# Altium footprint library Placa desarrollo 16F877A.PcbLib: 16 footprints
Each footprint in its own frame and in the unit in brackets; x right, y up, seen from the top. Pads: shape width x height; smd on the part's side, far side on the other; paste and mask are expansions set on the pad; w line width, h text height; cw(c..) or ccw(c..) is an arc to the next point about the centre after c.
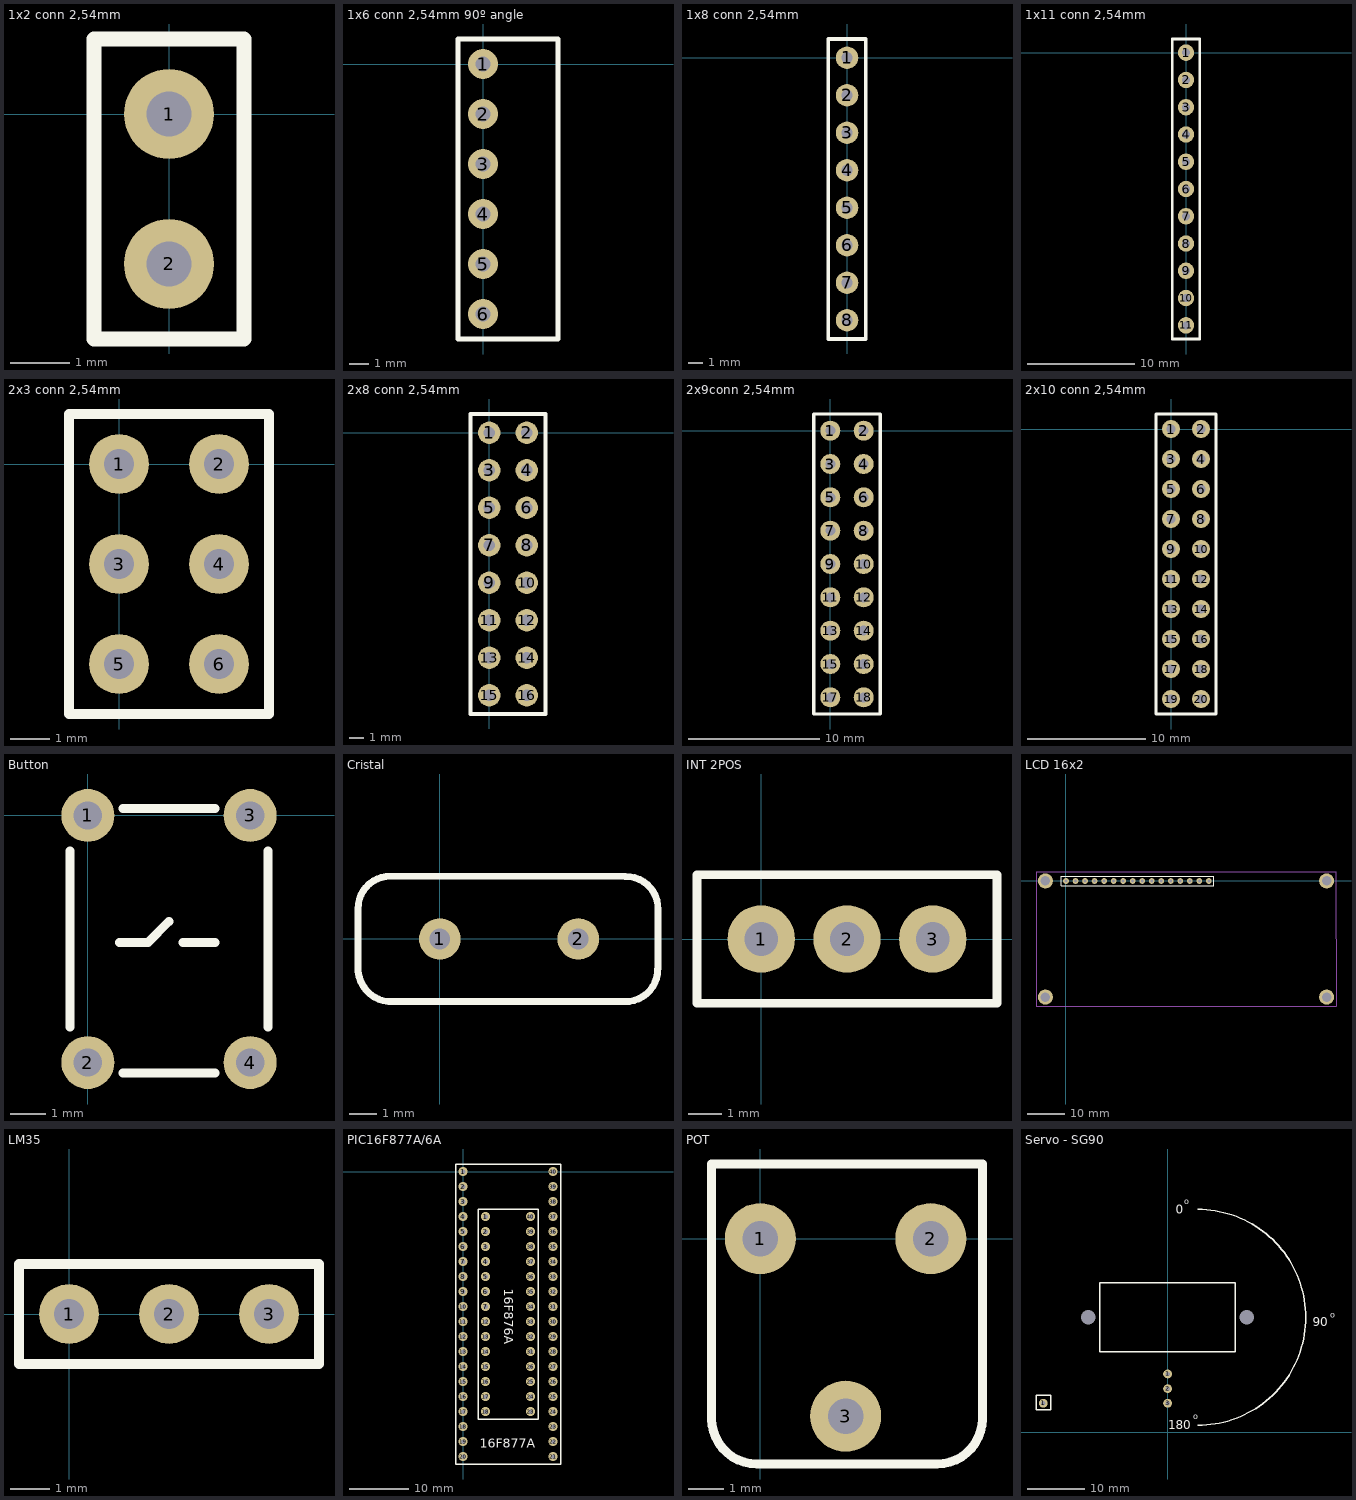
[diagram p0: the footprints below, top view; thin cyan lines are the x and y axes]

## 1x2 conn 2,54mm [mil]
pads (2):
  round 60 hole 30: 1(0,0) 2(0,-100)
Top Overlay:
  lines w10: -50,-150 50,-150 50,50 -50,50 -50,-150
3D body "1x2 male header.stp": height 336.22, standoff -118.11, extent -50,-150 50,50

## 1x6 conn 2,54mm 90º angle [mil]
pads (6):
  round 60 hole 30: 1(0,0) 2(0,-100) 3(0,-200) 4(0,-300) 5(0,-400) 6(0,-500)
Top Overlay:
  lines w10: -50,-550 -50,50 150,50 150,-550 -50,-550
3D body "1x6 male header 90º.stp": height 100, standoff -118.11, extent -12.8,-550 382.48,50

## 1x8 conn 2,54mm [mil]
pads (8):
  round 60 hole 30: 1(0,0) 2(0,-100) 3(0,-200) 4(0,-300) 5(0,-400) 6(0,-500) 7(0,-600) 8(0,-700)
Top Overlay:
  lines w10: -50,-750 -50,50 50,50 50,-750 -50,-750
3D body "1x8 male header.stp": height 336.22, standoff -118.11, extent -50,-750 50,50

## 1x11 conn 2,54mm [mil]
pads (11):
  round 60 hole 30: 1(0,0) 2(0,-100) 3(0,-200) 4(0,-300) 5(0,-400) 6(0,-500) 7(0,-600) 8(0,-700) 9(0,-800) 10(0,-900) 11(0,-1000)
Top Overlay:
  lines w10: -50,-1050 -50,50 50,50 50,-1050 -50,-1050
3D body "1x11 male header.stp": height 336.22, standoff -118.11, extent -50,-1050 50,50

## 2x3 conn 2,54mm [mil]
pads (6):
  round 60 hole 30: 1(0,0) 2(100,0) 3(0,-100) 4(100,-100) 5(0,-200) 6(100,-200)
Top Overlay:
  lines w10: -50,-250 150,-250 150,50 -50,50 -50,-250
3D body "2x3 male header.stp": height 336.22, standoff -118.11, extent -50,-250 150,50

## 2x8 conn 2,54mm [mil]
pads (16):
  round 60 hole 30: 1(0,0) 2(100,0) 3(0,-100) 4(100,-100) 5(0,-200) 6(100,-200) 7(0,-300) 8(100,-300) 9(0,-400) 10(100,-400) 11(0,-500) 12(100,-500) 13(0,-600) 14(100,-600) 15(0,-700) 16(100,-700)
Top Overlay:
  lines w10: -50,-750 -50,50 150,50 150,-750 -50,-750
3D body "2x8 male header.stp": height 336.22, standoff -118.11, extent -50,-750 150,50

## 2x9conn 2,54mm [mil]
pads (18):
  round 60 hole 30: 1(0,0) 2(100,0) 3(0,-100) 4(100,-100) 5(0,-200) 6(100,-200) 7(0,-300) 8(100,-300) 9(0,-400) 10(100,-400) 11(0,-500) 12(100,-500) 13(0,-600) 14(100,-600) 15(0,-700) 16(100,-700) 17(0,-800) 18(100,-800)
Top Overlay:
  lines w10: -50,-850 -50,50 150,50 150,-850 -50,-850
3D body "2x9 male header.stp": height 336.22, standoff -118.11, extent -50,-850 150,50

## 2x10 conn 2,54mm [mil]
pads (20):
  round 60 hole 30: 1(0,0) 2(100,0) 3(0,-100) 4(100,-100) 5(0,-200) 6(100,-200) 7(0,-300) 8(100,-300) 9(0,-400) 10(100,-400) 11(0,-500) 12(100,-500) 13(0,-600) 14(100,-600) 15(0,-700) 16(100,-700) 17(0,-800) 18(100,-800) 19(0,-900) 20(100,-900)
Top Overlay:
  lines w10: -50,-950 -50,50 150,50 150,-950 -50,-950
3D body "2x10 male header.stp": height 336.22, standoff -118.11, extent -50,-950 150,50

## Button [mm]
pads (4):
  round 1.5 hole 0.8: 1(0,0) 2(0,-7) 3(4.6,0) 4(4.6,-7)
Top Overlay:
  lines w0.254: -0.5,-6 -0.5,-1 ; 0.9,-3.6 1.7,-3.6 2.3,-3 ; 1,-7.3 3.6,-7.3 ; 1,0.2 3.6,0.2 ; 2.7,-3.6 3.6,-3.6 ; 5.1,-6 5.1,-1
3D body "Button.stp": height 5.95, standoff -3, extent -0.775,-6.875 5.375,-0.125

## Cristal [mil]
pads (2):
  round 60 hole 30: 1(0,0) 2(200,0)
Top Overlay:
  lines w10: -118.11,-43.31 -118.11,0 -118.11,43.31 cw(c-71.85,44.29) -70.87,90.55 267.72,90.55 ; -118.11,-39.37 ccw(c-69.88,-42.32) -66.93,-90.55 ; -70.87,-90.55 267.44,-90.55 ; 267.44,-90.39 ccw(c268.42,-44.13) 314.68,-43.15 ; 267.88,90.26 cw(c268.86,44) 315.12,43.01 ; 314.96,-43.15 314.96,43.31
3D body "Cristal.stp": height 131.89, standoff -118.11, extent -116.54,-90.55 316.54,90.55

## INT 2POS [mm]
pads (3):
  round 2 hole 1: 1(0,0) 2(2.54,0) 3(5.08,0)
Top Overlay:
  lines w0.254: -1.905,-1.905 6.985,-1.905 6.985,1.905 -1.905,1.905 -1.905,-1.905
3D body "Interruptor 2 pos 2,54 pitch.stp": height 6.5, standoff -5, extent -1.81,-1.85 6.89,1.85

## LCD 16x2 [mil]
pads (20):
  round 60 hole 30: 1(0,0) 2(100,0) 3(200,0) 4(300,0) 5(400,0) 6(500,0) 7(600,0) 8(700,0) 9(800,0) 10(900,0) 11(1000,0) 12(1100,0) 13(1200,0) 14(1300,0) 15(1400,0) 16(1500,0)
  round 157.48 hole 98.43: ""(-216.54,-1219.29) ""(-216.54,1.18) ""(2736.22,-1219.29) ""(2736.22,1.18)
Top Overlay:
  lines w10: -50,-50 1550,-50 1550,50 -50,50 -50,-50
Mechanical 1:
  lines w10: -314.96,-1317.72 2834.65,-1317.72 2834.65,99.61 -314.96,99.61 -314.96,-1317.72
3D body "LCD.stp": height 500, standoff -196.85, extent -314.8,-1318.66 2834.8,98.66

## LM35 [mil]
pads (3):
  round 60 hole 30: 1(0,0) 2(100,0) 3(200,0)
Top Overlay:
  lines w10: -50,-50 250,-50 250,50 -50,50 -50,-50
3D body "LM35.stp": height 859.84, standoff -118.11, extent -57.87,-100 257.87,64.48

## PIC16F877A/6A [mil]
pads (68):
  round 60 hole 30: 1(0,0) 1(150,-300) 2(0,-100) 2(150,-400) 3(0,-200) 3(150,-500) 4(0,-300) 4(150,-600) 5(0,-400) 5(150,-700) 6(0,-500) 6(150,-800) 7(0,-600) 7(150,-900) 8(0,-700) 9(0,-800) 10(0,-900) 11(0,-1000) 12(0,-1100) 12(150,-1000) 13(0,-1200) 13(150,-1100) 14(0,-1300) 14(150,-1200) 15(0,-1400) 15(150,-1300) 16(0,-1500) 16(150,-1400) 17(0,-1600) 17(150,-1500) 18(0,-1700) 18(150,-1600) 19(0,-1800) 20(0,-1900) 21(600,-1900) 22(600,-1800) 23(450,-1600) 23(600,-1700) 24(450,-1500) 24(600,-1600) 25(450,-1400) 25(600,-1500) 26(450,-1300) 26(600,-1400) 27(600,-1300) 28(600,-1200) 29(600,-1100) 30(600,-1000) 31(450,-1200) 31(600,-900) 32(450,-1100) 32(600,-800) 33(450,-1000) 33(600,-700) 34(450,-900) 34(600,-600) 35(450,-800) 35(600,-500) 36(450,-700) 36(600,-400) 37(450,-600) 37(600,-300) 38(450,-500) 38(600,-200) 39(450,-400) 39(600,-100) 40(450,-300) 40(600,0)
Top Overlay:
  lines w10: -50,-1950 -50,50 650,50 650,-1950 -50,-1950 ; 100,-1650 500,-1650 500,-250 100,-250 100,-1650
  text "16F876A" at 274.34,-782.17 h60
  text "16F877A" at 110,-1840 h60

## POT [mm]
pads (3):
  round 2 hole 1: 1(0,0) 2(4.8,0) 3(2.4,-5)
Top Overlay:
  lines w0.254: -1.37,-5.08 ccw(c-0.1,-5.08) -0.1,-6.35 4.98,-6.35 ccw(c4.98,-5.08) 6.25,-5.08 6.25,2.1 -1.37,2.1 -1.37,-5.08
3D body "Potenciometro.stp": height 7.25, standoff -3.5, extent -0.925,-5.2 5.725,1.8

## Servo - SG90 [mil] "Servo - SG90"
pads (6):
  round 60 hole 31.5: 1(-850,200)
  round 60 hole 30: 1(0,400) 2(0,300) 3(0,200)
  round 60 hole 98.43: ""(-541.34,787.4) ""(541.34,787.4)
Top Overlay:
  lines w10: 206.69,49.21 ccw(c206.69,787.4) 206.69,1525.59 ; -900,153.74 -900,253.74 -800,253.74 -800,153.74 -900,153.74 ; -462.6,551.18 0,551.18 462.6,551.18 462.6,1023.62 0,1023.62 -462.6,1023.62 -462.6,551.18
  text "0" at 57.24,1494.25 h60
  text "90" at 994.25,726.54 h60
  text "180" at 6.06,21.81 h60
  text "o" at 1112.36,785.59 h39.37
  text "o" at 174.61,90.74 h39.37
  text "o" at 115.55,1559.24 h39.37
Bottom Overlay:
  lines w10: -50,150 -50,450 50,450 50,150 -50,150
  text "Signal" at 440,379.99 h60
  text "5V" at 240,260 h60
  text "GND" at 290,160 h60
3D body "1x3 male header 90º.stp": height 78.74, standoff -139.37, extent -382.48,150 12.8,450
3D body "Pin header male 1x1.stp": height 336.22, standoff -118.11, extent -899.21,150.79 -800.79,249.21
3D body "MG90S.stp": height 370.08, standoff -929.13, extent -637.8,404.05 966.03,1170.76